# Altium schematic symbol library SCH - DRIVER - LED - TI TLC5947_RHB_32.SchLib: 1 symbol
Pins are listed as number, name and electrical type; pins without a type are passive.

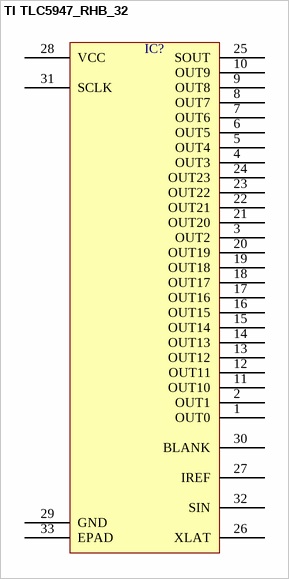
[diagram p0: symbol TI TLC5947_RHB_32]

## TI TLC5947_RHB_32
designator IC?  (value not drawn)
pins: 1 OUT0, 2 OUT1, 3 OUT2, 4 OUT3, 5 OUT4, 6 OUT5, 7 OUT6, 8 OUT7, 9 OUT8, 10 OUT9, 11 OUT10, 12 OUT11, 13 OUT12, 14 OUT13, 15 OUT14, 16 OUT15, 17 OUT16, 18 OUT17, 19 OUT18, 20 OUT19, 21 OUT20, 22 OUT21, 23 OUT22, 24 OUT23, 25 SOUT, 26 XLAT, 27 IREF, 28 VCC, 29 GND, 30 BLANK, 31 SCLK, 32 SIN, 33 EPAD